# Altium footprint library 4PIN对插连接器.PcbLib: 1 footprints
Each footprint in its own frame and in the unit in brackets; x right, y up, seen from the top. Pads: shape width x height; smd on the part's side, far side on the other; paste and mask are expansions set on the pad; w line width, h text height; cw(c..) or ccw(c..) is an arc to the next point about the centre after c.
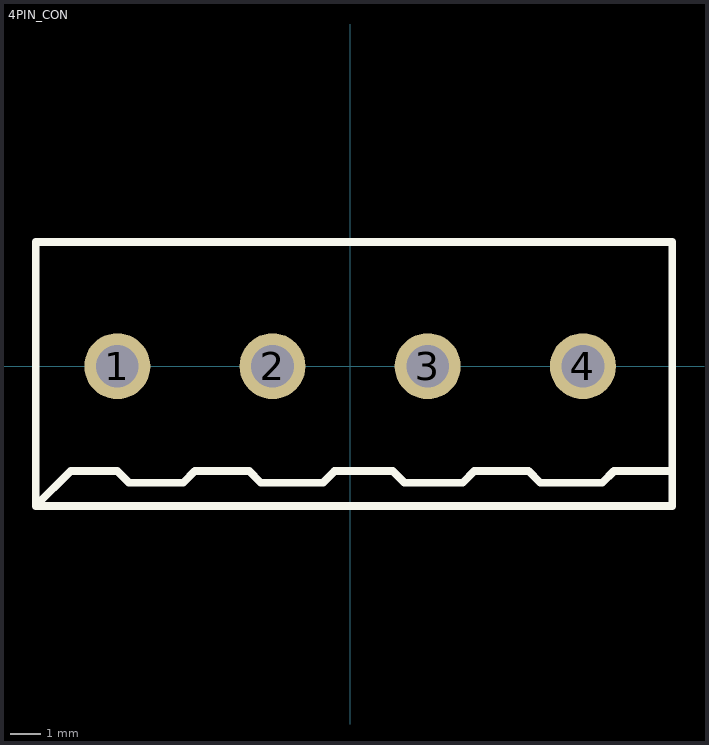
[diagram p0: the footprint, top view; thin cyan lines are the x and y axes]

## 4PIN_CON [mil] "对插连接器"
pads (4):
  round 85 hole 55: 1(-300,0) 2(-100,0) 3(100,0) 4(300,0)
Top Overlay:
  lines w10: 415,-135 340,-135 325,-150 245,-150 230,-135 160,-135 145,-150 70,-150 55,-135 -20,-135 -35,-150 -115,-150 -130,-135 -200,-135 -215,-150 -285,-150 -300,-135 -360,-135 -405,-180 ; -405,-180 -405,160 415,160 415,-180 -405,-180